# Altium schematic symbol library RK3588底板.SCHLIB: 57 symbols
Pins are listed as number, name and electrical type; pins without a type are passive.

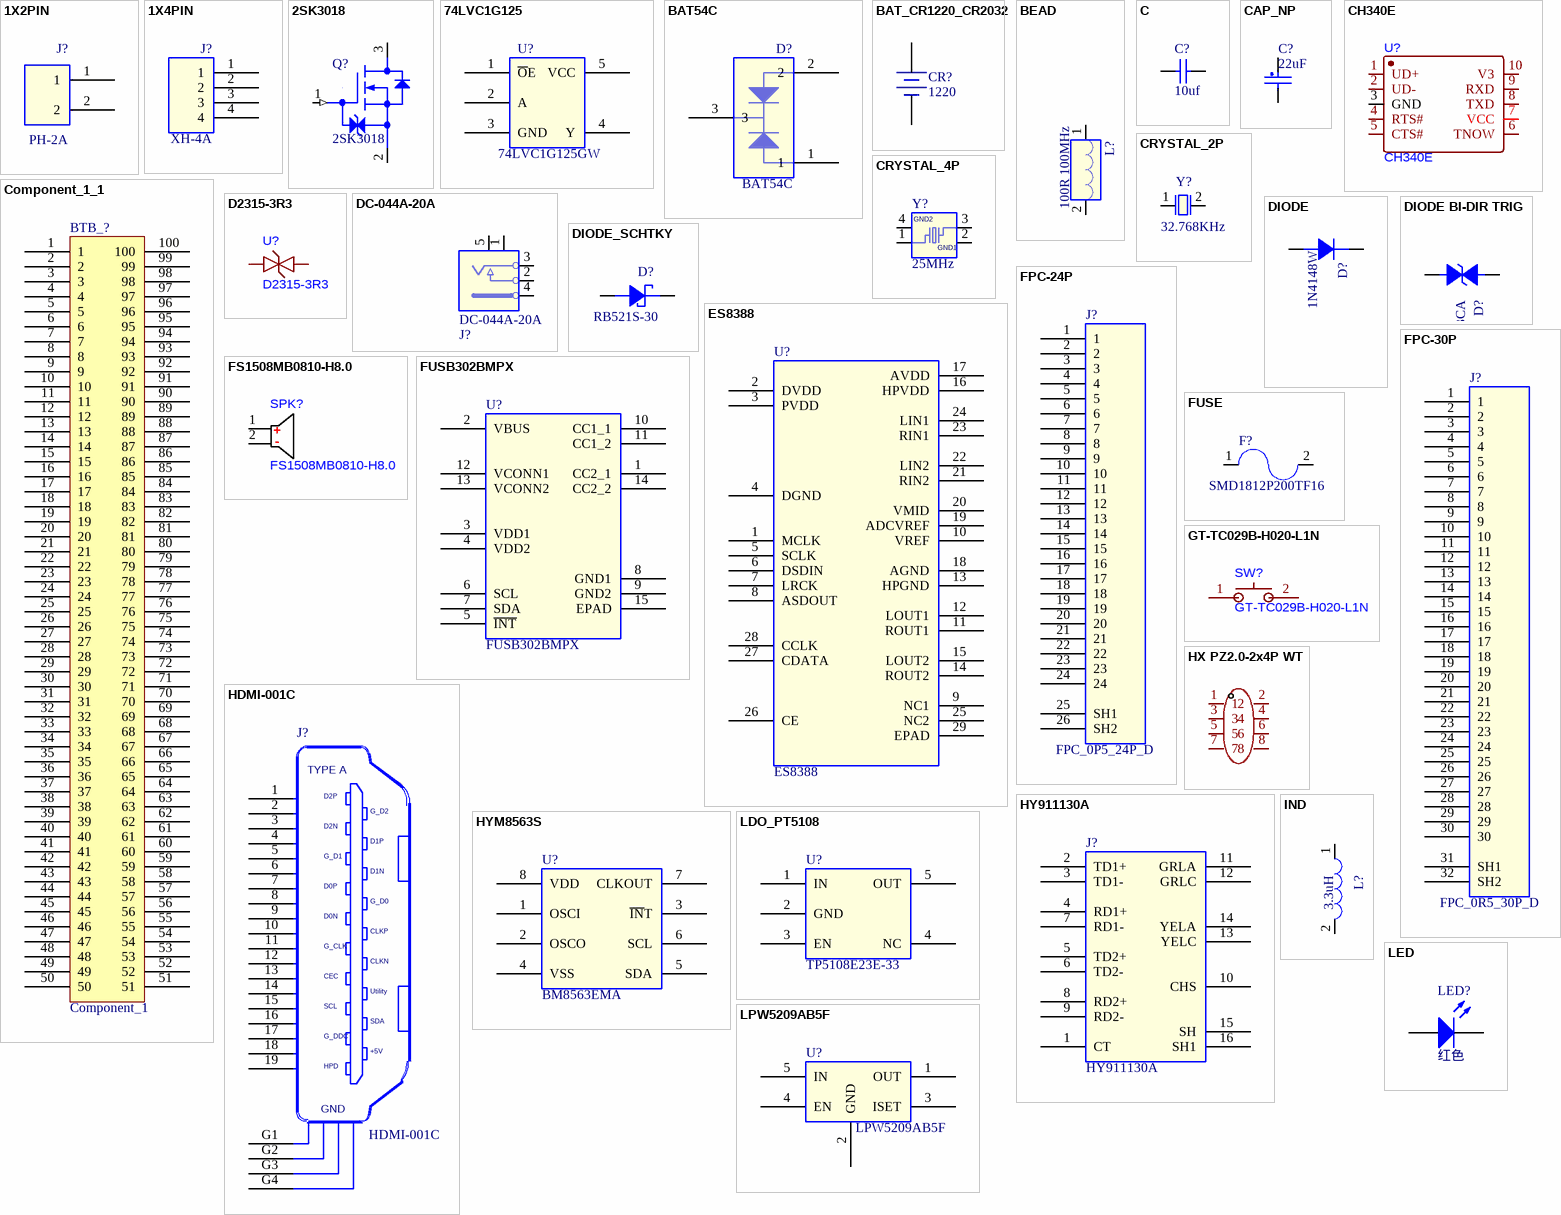
[diagram p0: symbols 1X2PIN to LPW5209AB5F]

## 1X2PIN
designator J?, comment PH-2A
footprint PH-1x2-2P0_l
pins: 1, 2

## 1X4PIN
designator J?, comment XH-4A
footprint XH2p54-4p
pins: 1, 2, 3, 4

## 2SK3018
designator Q?
footprint SOT23
pins: 1 GATE (in), 2 SOURCE, 3 DRAIN

## 74LVC1G125
designator U?, comment 74LVC1G125GW
footprint SOT-353
pins: 1 ~{O}E, 2 A, 3 GND, 4 Y, 5 VCC

## BAT54C
designator D?
footprint SOT23
pins: 1, 2, 3

## BAT_CR1220_CR2032
designator CR?, comment 1220
微型电池
footprint CR1220_A (纽扣电池座)
pins: 1 DC+, 2 DC-

## BEAD
designator L?, comment 100R 100MHz
footprint L0603
pins: 1, 2

## C
designator C?, comment 10uf
贴片电容/MLCC电容
footprint C0603_L (贴片MLCC电容)
footprint C0402
footprint C0603
footprint C0805
footprint C1206
pins: 1, 2

## CAP_NP
designator C?, comment 22uF
footprint C0805
footprint C0402
footprint C0603
footprint C0603_L
footprint C1206
pins: 1, 2

## CH340E
designator U?
footprint MSOP-10_L3.0-W3.0-P0.50-LS5.0-BL
pins: 1 UD+, 2 UD-, 3 GND, 4 RTS#, 5 CTS#, 6 TNOW, 7 VCC, 8 TXD, 9 RXD, 10 V3

## Component_1_1
designator BTB_?, comment Component_1
footprint F_100PIN (0.5双槽板对板母座，100P)
pins: 1, 2, 3, 4, 5, 6, 7, 8, 9, 10, 11, 12, 13, 14, 15, 16, 17, 18, 19, 20, 21, 22, 23, 24, 25, 26, 27, 28, 29, 30, 31, 32, 33, 34, 35, 36, 37, 38, 39, 40, 41, 42, 43, 44, 45, 46, 47, 48, 49, 50, 51, 52, 53, 54, 55, 56, 57, 58, 59, 60, 61, 62, 63, 64, 65, 66, 67, 68, 69, 70, 71, 72, 73, 74, 75, 76, 77, 78, 79, 80, 81, 82, 83, 84, 85, 86, 87, 88, 89, 90, 91, 92, 93, 94, 95, 96, 97, 98, 99, 100

## CRYSTAL_2P
designator Y?, comment 32.768KHz
footprint 3215
pins: 1, 2

## CRYSTAL_4P
designator Y?, comment 25MHz
footprint 3225
pins: 1, 2 GND1 (power), 3, 4 GND2 (power)

## D2315-3R3
designator U?
footprint DFN1006-2L-BI
pins: 1, 2

## DC-044A-20A
designator J?
footprint dc_in_th_3p_10r1x11r6
pins: 1, 2, 3, 4, 5

## DIODE
designator D?, comment 1N4148W
footprint SOD-123
pins: 1 K, 2 A

## DIODE BI-DIR TRIG
designator D?, comment SMAJ13CA
footprint SMA_CA
footprint esd0402
pins: 1, 2

## DIODE_SCHTKY
designator D?, comment RB521S-30
footprint SOD523
pins: 1, 2

## ES8388
designator U?
footprint qfn28_0r45-4x4EP2R6X2R6
pins: 1 MCLK, 2 DVDD, 3 PVDD, 4 DGND, 5 SCLK, 6 DSDIN, 7 LRCK, 8 ASDOUT, 9 NC1, 10 VREF, 11 ROUT1, 12 LOUT1, 13 HPGND, 14 ROUT2, 15 LOUT2, 16 HPVDD, 17 AVDD, 18 AGND, 19 ADCVREF, 20 VMID, 21 RIN2, 22 LIN2, 23 RIN1, 24 LIN1, 25 NC2, 26 CE, 27 CDATA, 28 CCLK, 29 EPAD

## FPC-24P
designator J?, comment FPC_0P5_24P_D
footprint fpc_24p_0p5
pins: 1, 2, 3, 4, 5, 6, 7, 8, 9, 10, 11, 12, 13, 14, 15, 16, 17, 18, 19, 20, 21, 22, 23, 24, 25 SH1, 26 SH2

## FPC-30P
designator J?, comment FPC_0R5_30P_D
footprint FPC-30P-0P5
pins: 1, 2, 3, 4, 5, 6, 7, 8, 9, 10, 11, 12, 13, 14, 15, 16, 17, 18, 19, 20, 21, 22, 23, 24, 25, 26, 27, 28, 29, 30, 31 SH1, 32 SH2

## FS1508MB0810-H8.0
designator SPK?
footprint BEEP-TH_BD15.0-P10.20-D1.2
pins: 1, 2

## FUSB302BMPX
designator U?
footprint WQFN14-0R50-2R5X2R5EP1R45X1R45
pins: 1 CC2_1, 2 VBUS, 3 VDD1, 4 VDD2, 5 ~{INT}, 6 SCL, 7 SDA, 8 GND1, 9 GND2, 10 CC1_1, 11 CC1_2, 12 VCONN1, 13 VCONN2, 14 CC2_2, 15 EPAD

## FUSE
designator F?, comment SMD1812P200TF16
footprint F1812
pins: 1, 2

## GT-TC029B-H020-L1N
designator SW?
footprint SW-SMD_L3.9-W2.9-P4.15-LS5.0
pins: 1, 2

## HDMI-001C
designator J?
footprint HDMI-SMD
pins: 1, 2, 3, 4, 5, 6, 7, 8, 9, 10, 11, 12, 13, 14, 15, 16, 17, 18, 19, G1 20, G2 21, G3 22, G4 23
text: TYPE A; D2P; G_D2; D2N; D1P; G_D1; D1N; D0P; G_D0; D0N; CLKP; G_CLK; CLKN; CEC; Utility; SCL; SDA; G_DDC; +5V; HPD; GND

## HX PZ2.0-2x4P WT
designator H?  (value not drawn)
footprint HDR-SMD_HX-PZ2.0-2X4P-WT
pins: 1, 2, 3, 4, 5, 6, 7, 8

## HY911130A
designator J?
footprint HY911130A
pins: 1 CT, 2 TD1+, 3 TD1-, 4 RD1+, 5 TD2+, 6 TD2-, 7 RD1-, 8 RD2+, 9 RD2-, 10 CHS, 11 GRLA, 12 GRLC, 13 YELC, 14 YELA, 15 SH, 16 SH1

## HYM8563S
designator U?, comment BM8563EMA
footprint msop-8
pins: 1 OSCI, 2 OSCO, 3 ~{IN}T, 4 VSS, 5 SDA, 6 SCL, 7 CLKOUT, 8 VDD

## IND
designator L?, comment 3.3uH
footprint l4520
footprint L0518
footprint L0603
footprint L2520
pins: 1, 2

## LDO_PT5108
designator U?, comment TP5108E23E-33
footprint SOT23-5
pins: 1 IN, 2 GND, 3 EN, 4 NC, 5 OUT

## LED
designator LED?, comment 红色
贴片LED
footprint LED0603_R (红色0603LED)
pins: 1 A, 2 K

## LPW5209AB5F
designator U?
footprint SOT23-5
pins: 1 OUT, 2 GND, 3 ISET, 4 EN, 5 IN

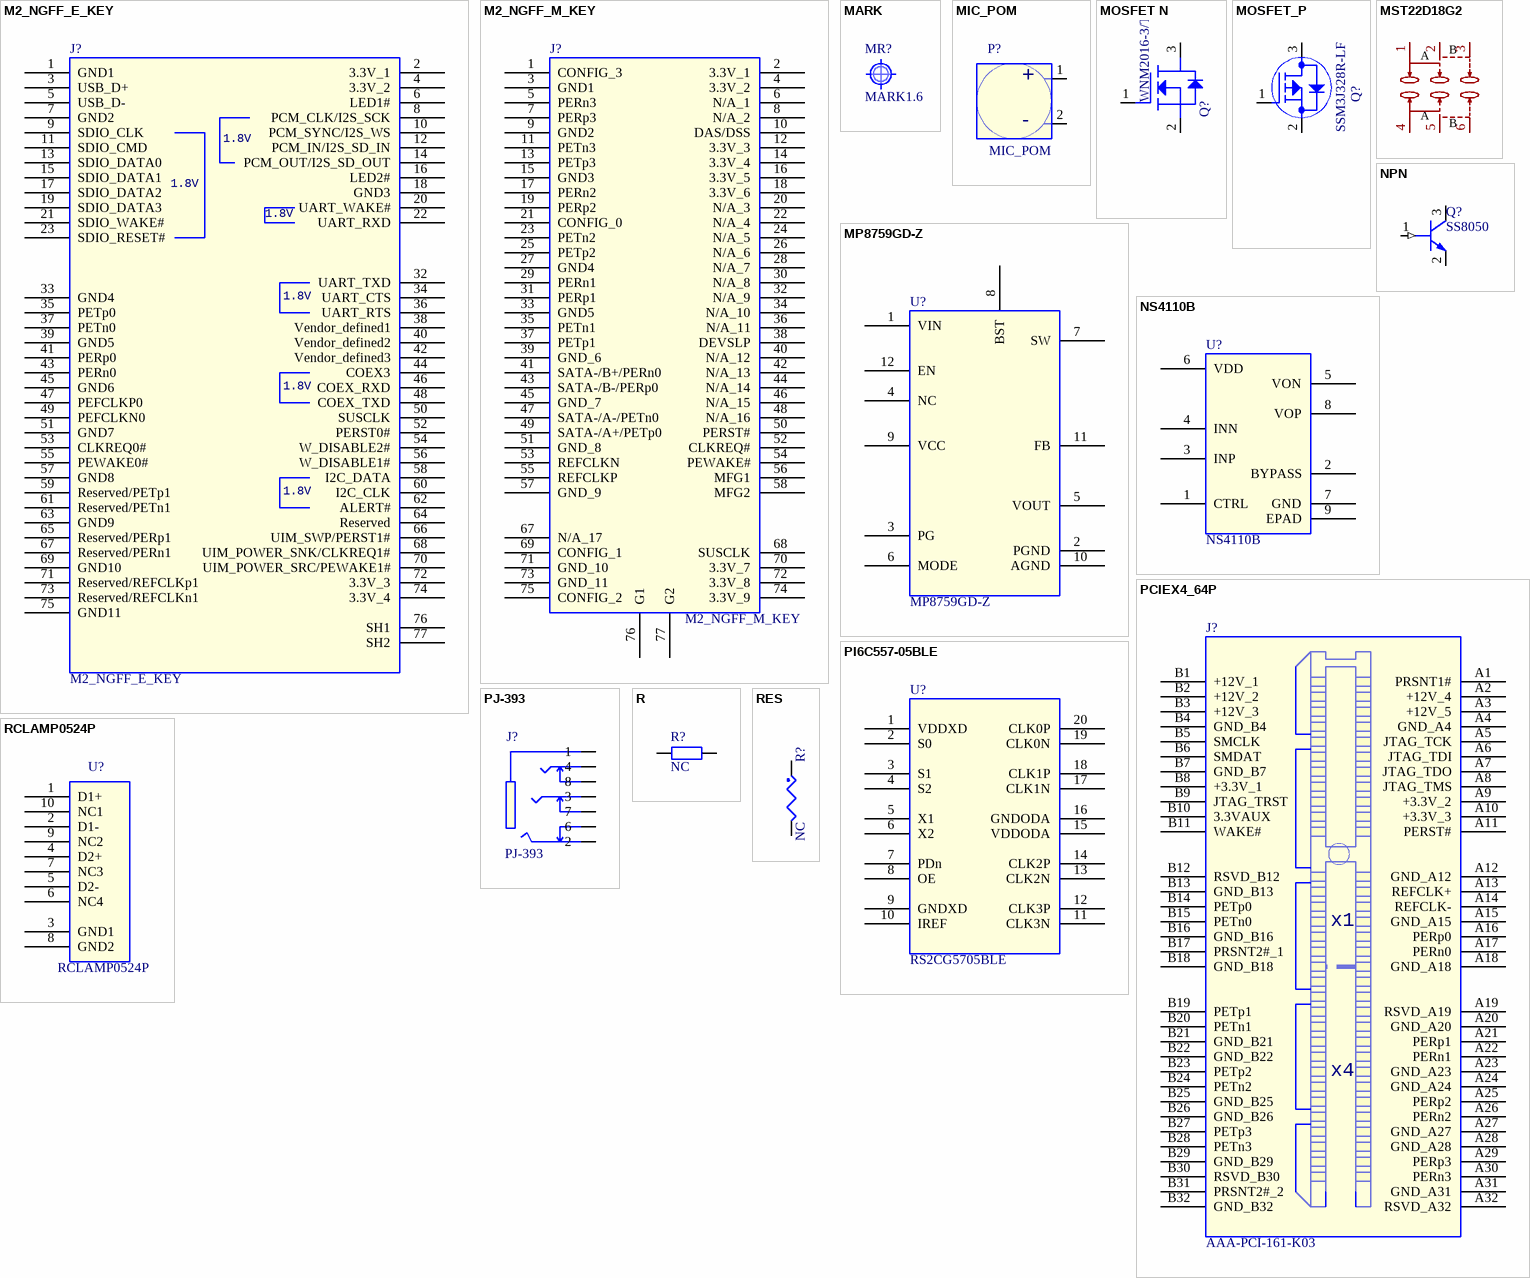
[diagram p1: symbols M2_NGFF_E_KEY to RES]

## M2_NGFF_E_KEY
designator J?
footprint M2_NGFF_E_KEY
pins: 1 GND1, 2 3.3V_1, 3 USB_D+, 4 3.3V_2, 5 USB_D-, 6 LED1#, 7 GND2, 8 PCM_CLK/I2S_SCK, 9 SDIO_CLK, 10 PCM_SYNC/I2S_WS, 11 SDIO_CMD, 12 PCM_IN/I2S_SD_IN, 13 SDIO_DATA0, 14 PCM_OUT/I2S_SD_OUT, 15 SDIO_DATA1, 16 LED2#, 17 SDIO_DATA2, 18 GND3, 19 SDIO_DATA3, 20 UART_WAKE#, 21 SDIO_WAKE#, 22 UART_RXD, 23 SDIO_RESET#, 32 UART_TXD, 33 GND4, 34 UART_CTS, 35 PETp0, 36 UART_RTS, 37 PETn0, 38 Vendor_defined1, 39 GND5, 40 Vendor_defined2, 41 PERp0, 42 Vendor_defined3, 43 PERn0, 44 COEX3, 45 GND6, 46 COEX_RXD, 47 PEFCLKP0, 48 COEX_TXD, 49 PEFCLKN0, 50 SUSCLK, 51 GND7, 52 PERST0#, 53 CLKREQ0#, 54 W_DISABLE2#, 55 PEWAKE0#, 56 W_DISABLE1#, 57 GND8, 58 I2C_DATA, 59 Reserved/PETp1, 60 I2C_CLK, 61 Reserved/PETn1, 62 ALERT#, 63 GND9, 64 Reserved, 65 Reserved/PERp1, 66 UIM_SWP/PERST1#, 67 Reserved/PERn1, 68 UIM_POWER_SNK/CLKREQ1#, 69 GND10, 70 UIM_POWER_SRC/PEWAKE1#, 71 Reserved/REFCLKp1, 72 3.3V_3, 73 Reserved/REFCLKn1, 74 3.3V_4, 75 GND11, 76 SH1, 77 SH2
text: 1.8V

## M2_NGFF_M_KEY
designator J?
footprint M2_NGFF_M_KEY
pins: 1 CONFIG_3, 2 3.3V_1, 3 GND1, 4 3.3V_2, 5 PERn3, 6 N/A_1, 7 PERp3, 8 N/A_2, 9 GND2, 10 DAS/DSS, 11 PETn3, 12 3.3V_3, 13 PETp3, 14 3.3V_4, 15 GND3, 16 3.3V_5, 17 PERn2, 18 3.3V_6, 19 PERp2, 20 N/A_3, 21 CONFIG_0, 22 N/A_4, 23 PETn2, 24 N/A_5, 25 PETp2, 26 N/A_6, 27 GND4, 28 N/A_7, 29 PERn1, 30 N/A_8, 31 PERp1, 32 N/A_9, 33 GND5, 34 N/A_10, 35 PETn1, 36 N/A_11, 37 PETp1, 38 DEVSLP, 39 GND_6, 40 N/A_12, 41 SATA-/B+/PERn0, 42 N/A_13, 43 SATA-/B-/PERp0, 44 N/A_14, 45 GND_7, 46 N/A_15, 47 SATA-/A-/PETn0, 48 N/A_16, 49 SATA-/A+/PETp0, 50 PERST#, 51 GND_8, 52 CLKREQ#, 53 REFCLKN, 54 PEWAKE#, 55 REFCLKP, 56 MFG1, 57 GND_9, 58 MFG2, 67 N/A_17, 68 SUSCLK, 69 CONFIG_1, 70 3.3V_7, 71 GND_10, 72 3.3V_8, 73 GND_11, 74 3.3V_9, 75 CONFIG_2, 76 G1, 77 G2

## MARK
designator MR?, comment MARK1.6
光学定位点
footprint Mark 1 (光学定位点，直径1mm)

## MIC_POM
designator P?
footprint MIC2-4R00-TM
pins: 1 Out, 2 GND
text: +; -

## MOSFET N
designator Q?, comment WNM2016-3/TR
footprint SOT23
pins: 1 GATE, 2 SOURCE, 3 DRAIN

## MOSFET_P
designator Q?, comment SSM3J328R-LF
footprint SOT23
pins: 1 GATE, 2 SOURCE, 3 DRAIN

## MP8759GD-Z
designator U?
footprint QFN12-2R00X3R00
pins: 1 VIN, 2 PGND, 3 PG, 4 NC, 5 VOUT, 6 MODE, 7 SW, 8 BST, 9 VCC, 10 AGND, 11 FB, 12 EN

## MST22D18G2
designator SW?  (value not drawn)
footprint SW-SMD_MST22D18G2
pins: 1, 2, 3, 4, 5, 6
text: B; A

## NPN
designator Q?, comment SS8050
footprint SOT23
pins: 1 BASE (in), 2 EMITTER, 3 COLLECTOR

## NS4110B
designator U?
footprint SOP-8-EP-2R5X3R4
pins: 1 CTRL, 2 BYPASS, 3 INP, 4 INN, 5 VON, 6 VDD, 7 GND, 8 VOP, 9 EPAD

## PCIEX4_64P
designator J?, comment AAA-PCI-161-K03
footprint PCIE_64PIN_1R00
pins: A1 PRSNT1#, A2 +12V_4, A3 +12V_5, A4 GND_A4, A5 JTAG_TCK, A6 JTAG_TDI, A7 JTAG_TDO, A8 JTAG_TMS, A9 +3.3V_2, A10 +3.3V_3, A11 PERST#, A12 GND_A12, A13 REFCLK+, A14 REFCLK-, A15 GND_A15, A16 PERp0, A17 PERn0, A18 GND_A18, A19 RSVD_A19, A20 GND_A20, A21 PERp1, A22 PERn1, A23 GND_A23, A24 GND_A24, A25 PERp2, A26 PERn2, A27 GND_A27, A28 GND_A28, A29 PERp3, A30 PERn3, A31 GND_A31, A32 RSVD_A32, B1 +12V_1, B2 +12V_2, B3 +12V_3, B4 GND_B4, B5 SMCLK, B6 SMDAT, B7 GND_B7, B8 +3.3V_1, B9 JTAG_TRST, B10 3.3VAUX, B11 WAKE#, B12 RSVD_B12, B13 GND_B13, B14 PETp0, B15 PETn0, B16 GND_B16, B17 PRSNT2#_1, B18 GND_B18, B19 PETp1, B20 PETn1, B21 GND_B21, B22 GND_B22, B23 PETp2, B24 PETn2, B25 GND_B25, B26 GND_B26, B27 PETp3, B28 PETn3, B29 GND_B29, B30 RSVD_B30, B31 PRSNT2#_2, B32 GND_B32
text: x1; x4

## PI6C557-05BLE
designator U?, comment RS2CG5705BLE
footprint TSSOP20
pins: 1 VDDXD, 2 S0, 3 S1, 4 S2, 5 X1, 6 X2, 7 PDn, 8 OE, 9 GNDXD, 10 IREF, 11 CLK3N, 12 CLK3P, 13 CLK2N, 14 CLK2P, 15 VDDODA, 16 GNDODA, 17 CLK1N, 18 CLK1P, 19 CLK0N, 20 CLK0P

## PJ-393
designator J?
footprint audio_smd_7p_6r0x8r8
pins: 1, 2, 3, 4, 6, 7, 8

## R
designator R?, comment NC
贴片电阻
footprint R0402_L (1/16W贴片电阻)
footprint R0201
footprint R0402
footprint R0603
footprint R0805
pins: 1, 2

## RCLAMP0524P
designator U?
footprint USON_10
pins: 1 D1+, 2 D1-, 3 GND1, 4 D2+, 5 D2-, 6 NC4, 7 NC3, 8 GND2, 9 NC2, 10 NC1

## RES
designator R?, comment NC
footprint R0402
footprint R0201
footprint R0402_L
footprint R0603
footprint R0805
pins: 1, 2

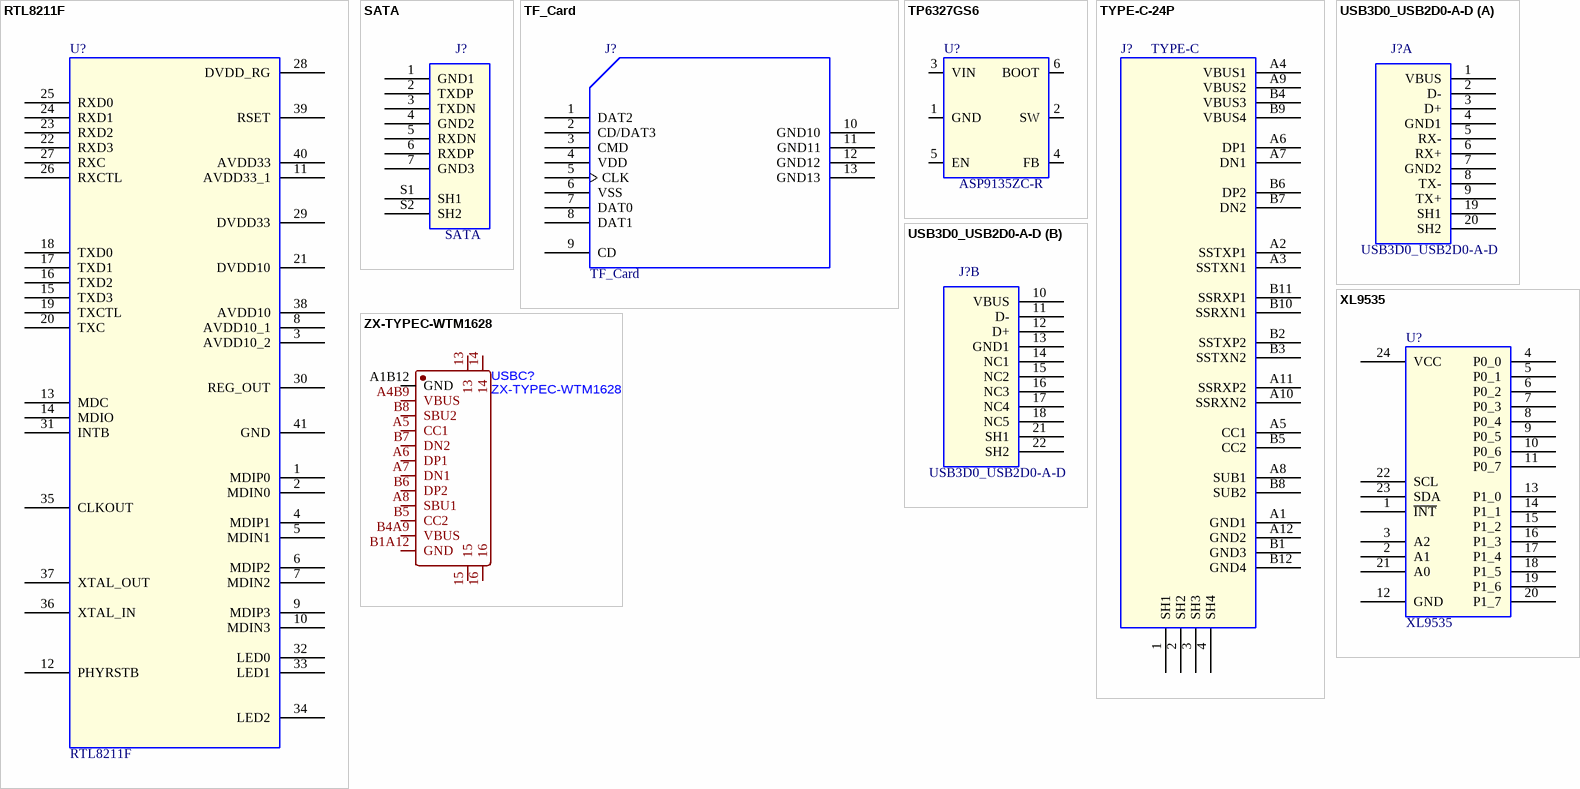
[diagram p2: symbols RTL8211F to ZX-TYPEC-WTM1628]

## RTL8211F
designator U?
footprint qfp_40p_r
pins: 1 MDIP0, 2 MDIN0, 3 AVDD10_2, 4 MDIP1, 5 MDIN1, 6 MDIP2, 7 MDIN2, 8 AVDD10_1, 9 MDIP3, 10 MDIN3, 11 AVDD33_1, 12 PHYRSTB, 13 MDC, 14 MDIO, 15 TXD3, 16 TXD2, 17 TXD1, 18 TXD0, 19 TXCTL, 20 TXC, 21 DVDD10, 22 RXD3, 23 RXD2, 24 RXD1, 25 RXD0, 26 RXCTL, 27 RXC, 28 DVDD_RG, 29 DVDD33, 30 REG_OUT, 31 INTB, 32 LED0, 33 LED1, 34 LED2, 35 CLKOUT, 36 XTAL_IN, 37 XTAL_OUT, 38 AVDD10, 39 RSET, 40 AVDD33, 41 GND

## SATA
designator J?
footprint ssata_v
pins: 1 GND1, 2 TXDP, 3 TXDN, 4 GND2, 5 RXDN, 6 RXDP, 7 GND3, S1 SH1 (power), S2 SH2 (power)

## TF_Card
designator J?
footprint TFCARD
pins: 1 DAT2, 2 CD/DAT3, 3 CMD, 4 VDD (power), 5 CLK, 6 VSS (power), 7 DAT0, 8 DAT1, 9 CD, 10 GND10, 11 GND11, 12 GND12, 13 GND13

## TP6327GS6
designator U?, comment ASP9135ZC-R
footprint SOT23_6
pins: 1 GND, 2 SW, 3 VIN, 4 FB, 5 EN, 6 BOOT

## TYPE-C-24P
designator J?, comment TYPE-C
footprint usb-c-smd_tyc-324g
pins: 1 SH1, 2 SH2, 3 SH3, 4 SH4, A1 GND1, A2 SSTXP1, A3 SSTXN1, A4 VBUS1, A5 CC1, A6 DP1, A7 DN1, A8 SUB1, A9 VBUS2, A10 SSRXN2, A11 SSRXP2, A12 GND2, B1 GND3, B2 SSTXP2, B3 SSTXN2, B4 VBUS3, B5 CC2, B6 DP2, B7 DN2, B8 SUB2, B9 VBUS4, B10 SSRXN1, B11 SSRXP1, B12 GND4

## USB3D0_USB2D0-A-D
designator J?
footprint USB3D0-AF-18P
part A pins: 1 VBUS, 2 D-, 3 D+, 4 GND1, 5 RX-, 6 RX+, 7 GND2, 8 TX-, 9 TX+, 19 SH1, 20 SH2
part B pins: 10 VBUS, 11 D-, 12 D+, 13 GND1, 14 NC1, 15 NC2, 16 NC3, 17 NC4, 18 NC5, 21 SH1, 22 SH2

## XL9535
designator U?
footprint TSSOP24-0R65-7R80X4R40
pins: 1 ~{INT}, 2 A1, 3 A2, 4 P0_0, 5 P0_1, 6 P0_2, 7 P0_3, 8 P0_4, 9 P0_5, 10 P0_6, 11 P0_7, 12 GND, 13 P1_0, 14 P1_1, 15 P1_2, 16 P1_3, 17 P1_4, 18 P1_5, 19 P1_6, 20 P1_7, 21 A0, 22 SCL, 23 SDA, 24 VCC

## ZX-TYPEC-WTM1628
designator USBC?
footprint USB-C-SMD_ZX-TYPEC-WTM1628
pins: 13, 14, 15, 16, A1B12 GND, A4B9 VBUS, A5 CC1, A6 DP1, A7 DN1, A8 SBU1, B1A12 GND, B4A9 VBUS, B5 CC2, B6 DP2, B7 DN2, B8 SBU2